# EAGLE library part LNK584-586 (library power_integrations)
LinkZero-AX combines extremely low standby/Power-Down energy use with the industry’s lowest component count standby supply solution. Below 3 mW at 230 VAC in Power-Down (PD) mode meets IEC 62301 definition of zero power consumption and is immeasurable on most power meters. LinkZero-AX is set into Power-Down mode using an external signal to pull the FEEDBACK pin high for 2.5 ms. Such an external signal can be generated by a system micro controller or infrared controller. In Power-Down mode the BYPASS pin remains regulated allowing the LinkZero-AX to be woken up with a reset pulse to pull the BYPASS pin below a reset threshold (1.5 V). Ultra low system consumption is therefore achieved without needing to disconnect the input voltage with a relay. LinkZero-AX is designed to be used in isolated or non-isolated converters. In either, the tightly specified FEEDBACK (FB) pin voltage reference enables universal input primary side regulated power supplies that cost effectively replace unregulated linear transformer and other switched mode supplies. The start-up and operating power are derived directly from the DRAIN pin. The internal oscillator frequency is jittered to significantly reduce both quasi-peak and average EMI, minimizing filter cost.
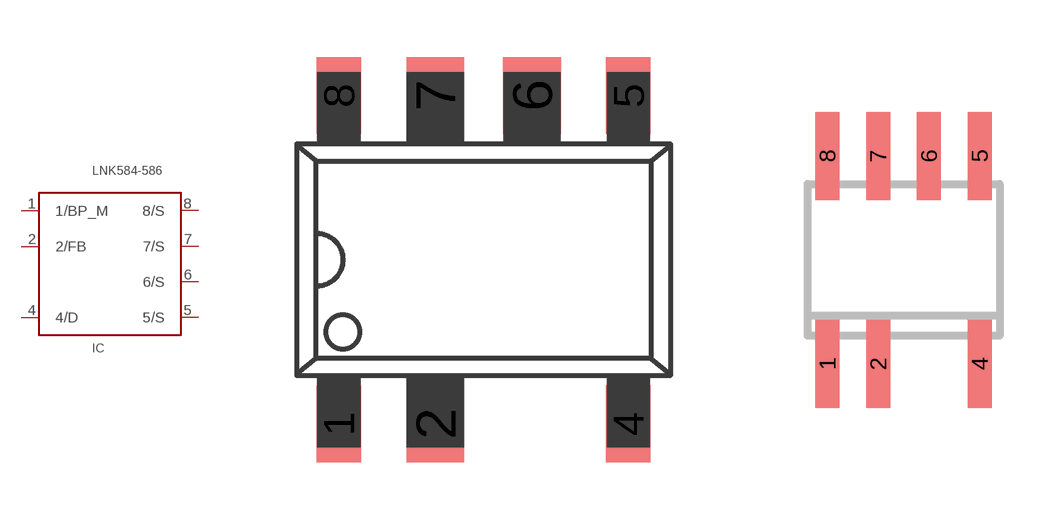
[diagram p1: symbol with the pads of DIP8C_SMD(G_PACKAGE); footprints DIP8C_SMD(G_PACKAGE), SO8-C(D_PACKAGE)]

Designator prefix IC

## LNK584-586  [DIP8C_SMD(G_PACKAGE)]
1  1/BP_M
2  2/FB
4  4/D
5  5/S
6  6/S
7  7/S
8  8/S

## LNK584-586SO8-C(D_PACKAGE)  [SO8-C(D_PACKAGE)]
Pads as for DIP8C_SMD(G_PACKAGE)

## Footprint DIP8C_SMD(G_PACKAGE) (pad centres in mm)
smd 1.168 x 2.032: 1 -3.81,-4.32; 4 3.81,-4.32; 5 3.81,4.32; 8 -3.81,4.32
smd 1.524 x 2.032: 2 -1.27,-4.32; 6 1.27,4.32; 7 -1.27,4.32

## Footprint SO8-C(D_PACKAGE) (pad centres in mm)
SMALL OUTLINE INTEGRATED CIRCUIT body 3.9 mm/JEDEC MS-012AA
smd 0.6 x 2.2: 1 -1.905,-2.6; 2 -0.635,-2.6; 4 1.905,-2.6; 5 1.905,2.6; 6 0.635,2.6; 7 -0.635,2.6; 8 -1.905,2.6